# Altium footprint library Diode_Normal.PcbLib: 1 footprints
Each footprint in its own frame and in the unit in brackets; x right, y up, seen from the top. Pads: shape width x height; smd on the part's side, far side on the other; paste and mask are expansions set on the pad; w line width, h text height; cw(c..) or ccw(c..) is an arc to the next point about the centre after c.
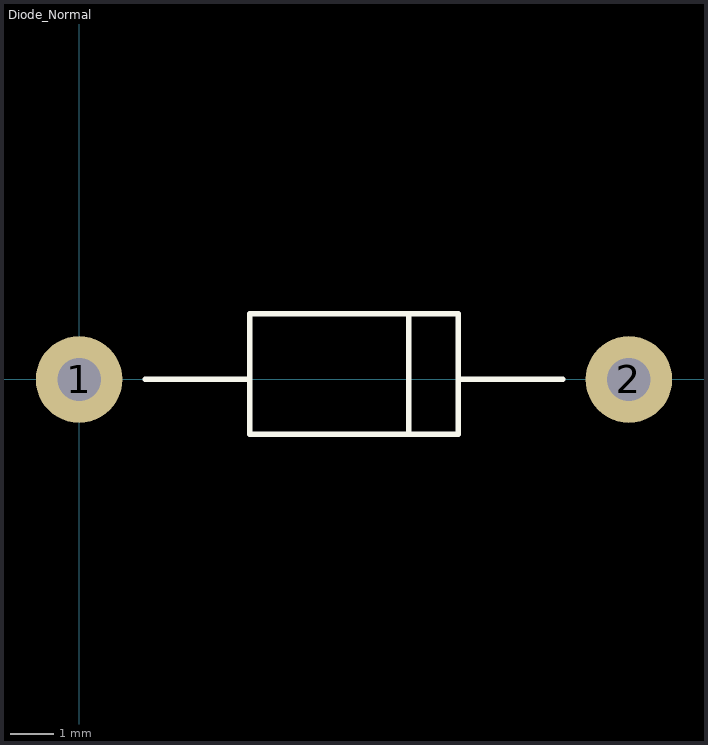
[diagram p0: the footprint, top view; thin cyan lines are the x and y axes]

## Diode_Normal [mm]
pads (2):
  round 2 hole 1: 1(0,0) 2(12.7,0)
Top Overlay:
  lines w0.127: 1.524,0 3.937,0 ; 7.62,-1.27 7.62,-1.016 7.62,1.524 ; 8.763,0 11.176,0 ; 3.937,0 3.937,1.524 8.763,1.524 8.763,-1.27 3.937,-1.27 3.937,0